# Altium footprint library HVPSlibrary.PcbLib: 149 footprints (part 10 of 11)
Each footprint in its own frame and in the unit in brackets; x right, y up, seen from the top. Pads: shape width x height; smd on the part's side, far side on the other; paste and mask are expansions set on the pad; w line width, h text height; cw(c..) or ccw(c..) is an arc to the next point about the centre after c.
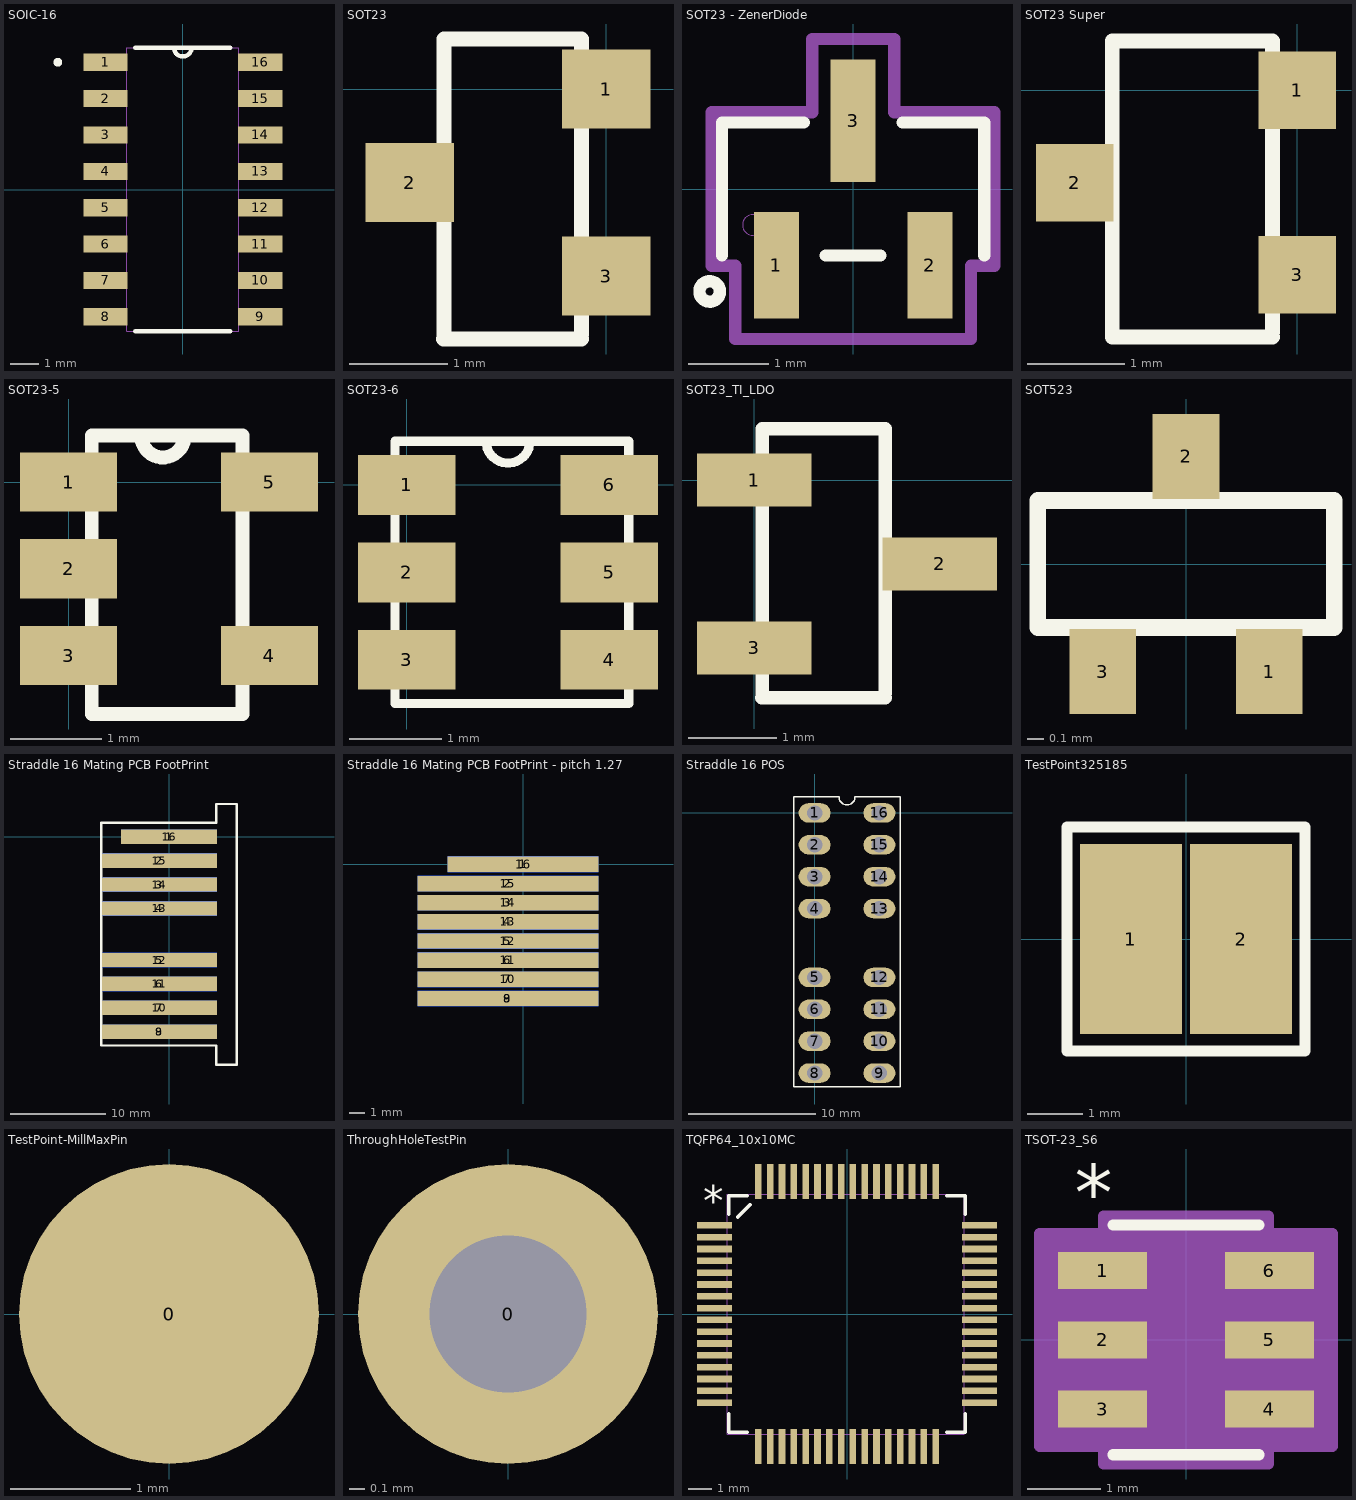
[diagram p9: the footprints below, top view; thin cyan lines are the x and y axes]

## SOIC-16 [mm]
pads (16):
  rect 1.55x0.6 smd: 1(-2.7,4.445) 2(-2.7,3.175) 3(-2.7,1.905) 4(-2.7,0.635) 5(-2.7,-0.635) 6(-2.7,-1.905) 7(-2.7,-3.175) 8(-2.7,-4.445) 9(2.7,-4.445) 10(2.7,-3.175) 11(2.7,-1.905) 12(2.7,-0.635) 13(2.7,0.635) 14(2.7,1.905) 15(2.7,3.175) 16(2.7,4.445)
Top Overlay:
  circle w0.152: c-4.364,4.445 r0.076
  lines w0.152: -1.662,-4.953 1.662,-4.953 ; -1.662,4.953 1.662,4.953 ; -0.305,4.953 ccw(c0,4.953) 0.305,4.953
Mechanical 1:
  circle w0: c-4.364,4.445 r0.076
  lines w0: -0.305,4.953 ccw(c0,4.953) 0.305,4.953 ; -1.956,-4.953 -1.956,4.953 1.956,4.953 1.956,-4.953 -1.956,-4.953

## SOT23 [mm] "3 PIN"
pads (3):
  rect 0.9x0.8 smd: 1(0,0) 2(-2,-0.95) 3(0,-1.9)
Top Overlay:
  lines w0.152: -1.654,-2.54 -0.254,-2.54 ; -1.651,-2.54 -1.651,0.508 -0.254,0.508 -0.254,-2.492
3D body: height 1, standoff 0, extent -1.651,-2.54 -0.254,0.508

## SOT23 - ZenerDiode [mil]
pads (3):
  rect 22x52 smd: 1(-37.5,-37.21) 2(37.5,-37.21)
  rect 22x59.71 smd: 3(0,33.36)
Top Overlay:
  circle w6: c-70,-50 r5
  lines w6: -64,-32.5 -64,32.5 -24.1,32.5 ; -13.4,-32.5 13.4,-32.5 ; 24.1,32.5 64,32.5 64,-32.5
Mechanical 13:
  circle w0: c-49,-17.5 r5
Mechanical 15:
  lines w6: -69,-37.5 -69,37.5 -20,37.5 -20,73.21 20,73.21 20,37.5 69,37.5 69,-37.5 57.5,-37.5 57.5,-73.21 -57.5,-73.21 -57.5,-37.5 -69,-37.5
3D body: height 39.37, standoff 0, extent -65,-35 65,35

## SOT23 Super [mm] "3 PIN"
pads (3):
  rect 0.8x0.8 smd: 1(0,0) 2(-2.29,-0.95) 3(0,-1.9)
Top Overlay:
  lines w0.152: -0.254,-2.54 -1.905,-2.54 -1.905,0.508 -0.254,0.508 -0.254,-2.492
3D body: height 1, standoff 0, extent -1.841,-2.54 -0.444,0.508

## SOT23-5 [mm]
pads (5):
  rect 1.06x0.65 smd: 1(0,0) 2(0,-0.95) 3(0,-1.9) 4(2.2,-1.9) 5(2.2,0)
Top Overlay:
  lines w0.152: 0.795,0.508 ccw(c1.032,0.508) 1.27,0.508 ; 0.254,-2.54 1.905,-2.54 1.905,0.508 0.254,0.508 0.254,-2.54
3D body: height 1.45, standoff 0, extent 0.254,-2.54 1.905,0.508

## SOT23-6 [mm]
pads (6):
  rect 1.06x0.65 smd: 1(0,0) 2(0,-0.95) 3(0,-1.9) 4(2.2,-1.9) 5(2.2,-0.95) 6(2.2,0)
Top Overlay:
  lines w0.1: -0.127,-2.375 -0.127,0.475 1.338,0.475 cw(c1.1,0.475) 0.863,0.475 2.413,0.475 2.413,-2.375 -0.127,-2.375

## SOT23_TI_LDO [mm] "3 PIN"
pads (3):
  rect 1.3x0.6 smd: 1(0,0) 2(2.1,-0.95) 3(0,-1.9)
Top Overlay:
  lines w0.152: 0.086,-2.464 1.486,-2.464 ; 0.089,-2.464 0.089,0.584 1.486,0.584 1.486,-2.416
3D body: height 1, standoff 0, extent 0.089,-2.464 1.486,0.584

## SOT523 [mm]
pads (3):
  rect 0.4x0.51 smd: 1(0.5,-0.645) 2(0,0.645) 3(-0.5,-0.645)
Top Overlay:
  lines w0.1: -0.889,-0.381 -0.889,0.381 0.889,0.381 0.889,-0.381 -0.889,-0.381

## Straddle 16 Mating PCB FootPrint [mm]
pads (16):
  rect 10x1.5 smd: 1(0,0)
  rect 12x1.5 smd: 2(-1,-2.5) 3(-1,-5) 4(-1,-7.5) 5(-1,-12.9) 6(-1,-15.4) 7(-1,-17.9) 8(-1,-20.4)
  rect 12x1.5 smd far side: 9(-1,-20.4) 10(-1,-17.9) 11(-1,-15.4) 12(-1,-12.9) 13(-1,-7.5) 14(-1,-5) 15(-1,-2.5)
  rect 10x1.5 smd far side: 16(0,0)
Top Overlay:
  lines w0.254: -7.112,-21.85 4.953,-21.85 4.953,-23.876 7.112,-23.876 7.112,3.429 4.953,3.429 4.953,1.45 -7.112,1.45 -7.112,-21.85

## Straddle 16 Mating PCB FootPrint - pitch 1.27 [mm]
pads (16):
  rect 10x1.02 smd: 1(0,0)
  rect 12x1.02 smd: 2(-1,-1.27) 3(-1,-2.54) 4(-1,-3.81) 5(-1,-5.08) 6(-1,-6.35) 7(-1,-7.62) 8(-1,-8.89)
  rect 12x1.02 smd far side: 9(-1,-8.89) 10(-1,-7.62) 11(-1,-6.35) 12(-1,-5.08) 13(-1,-3.81) 14(-1,-2.54) 15(-1,-1.27)
  rect 10x1.05 smd far side: 16(0,0)

## Straddle 16 POS [mm]
pads (16):
  oval 2.5x1.524 hole 1.2: 1(0,0) 2(0,-2.5) 3(0,-5) 4(0,-7.5) 5(0,-12.9) 6(0,-15.4) 7(0,-17.9) 8(0,-20.4) 9(5.08,-20.4) 10(5.08,-17.9) 11(5.08,-15.4) 12(5.08,-12.9) 13(5.08,-7.5) 14(5.08,-5) 15(5.08,-2.5) 16(5.08,0)
Top Overlay:
  lines w0.1: -1.651,-21.463 -1.651,1.25 1.915,1.25 ccw(c2.54,1.25) 3.165,1.25 6.731,1.25 6.731,-21.463 -1.651,-21.463
3D body "458440004.stp": height 15, standoff -3.19, extent -1.96,-23.306 7.04,4.294

## TestPoint325185 [mm]
pads (2):
  rect 1.85x3.45 smd: 1(-1,0) 2(1,0)
Top Overlay:
  lines w0.2: -2.159,-2.032 2.159,-2.032 2.159,2.032 -2.159,2.032 -2.159,0.466 -2.159,-2.032

## TestPoint-MillMaxPin [mm] "MillMaxPin 1508 round male pin"
pads (1):
  round 2.5 smd: 0(0,0)
3D body "mill-max-1508-0-00-15-00-00-03-0.step": height 4.32, standoff 0, extent -1.27,-1.27 1.27,1.27

## ThroughHoleTestPin [mm] "ThroughHoleTestPin - Keystone Electronics 5001"
pads (1):
  round 2 hole 1.05: 0(0,0)
3D body "keystone-PN5000.STEP": height 4.57, standoff -3.05, extent -1.27,-1.27 1.27,1.27

## TQFP64_10x10MC [mil]
pads (64):
  rect 58x11 smd: 1(-221,147.64) 2(-221,127.95) 3(-221,108.27) 4(-221,88.58) 5(-221,68.9) 6(-221,49.21) 7(-221,29.53) 8(-221,9.84) 9(-221,-9.84) 10(-221,-29.53) 11(-221,-49.21) 12(-221,-68.9) 13(-221,-88.58) 14(-221,-108.27) 15(-221,-127.95) 16(-221,-147.64) 33(221,-147.64) 34(221,-127.95) 35(221,-108.27) 36(221,-88.58) 37(221,-68.9) 38(221,-49.21) 39(221,-29.53) 40(221,-9.84) 41(221,9.84) 42(221,29.53) 43(221,49.21) 44(221,68.9) 45(221,88.58) 46(221,108.27) 47(221,127.95) 48(221,147.64)
  rect 11x58 smd: 17(-147.64,-221) 18(-127.95,-221) 19(-108.27,-221) 20(-88.58,-221) 21(-68.9,-221) 22(-49.21,-221) 23(-29.53,-221) 24(-9.84,-221) 25(9.84,-221) 26(29.53,-221) 27(49.21,-221) 28(68.9,-221) 29(88.58,-221) 30(108.27,-221) 31(127.95,-221) 32(147.64,-221) 49(147.64,221) 50(127.95,221) 51(108.27,221) 52(88.58,221) 53(68.9,221) 54(49.21,221) 55(29.53,221) 56(9.84,221) 57(-9.84,221) 58(-29.53,221) 59(-49.21,221) 60(-68.9,221) 61(-88.58,221) 62(-108.27,221) 63(-127.95,221) 64(-147.64,221)
Top Overlay:
  lines w6: -197,-166.14 -197,-197 -166.14,-197 ; -197,166.14 -197,197 -166.14,197 ; -182.26,161.74 -161.74,182.26 ; 166.14,-197 197,-197 197,-166.14 ; 166.14,197 197,197 197,166.14
  text "*" at -240,165 h50
Mechanical 1:
  lines w2: -200,-200 -200,200 195,200 195,-200 -200,-200
3D body: height 47.24, standoff 0, extent -200,-200 195,200

## TSOT-23_S6 [mil]
pads (6):
  rect 48x20 smd: 1(-45,37.4) 2(-45,0) 3(-45,-37.4) 4(45,-37.4) 5(45,0) 6(45,37.4)
Top Overlay:
  lines w6: -39.5,-62 39.5,-62 ; -39.5,62 39.5,62
  text "*" at -60,65 h30
Mechanical 13:
  text "*" at -63,65.33 h30
Mechanical 15:
  region: -44.5,-57.4 -79,-57.4 -79,57.4 -44.5,57.4 -44.5,67 44.5,67 44.5,57.4 79,57.4 79,-57.4 44.5,-57.4 44.5,-67 -44.5,-67
  lines w6: -79,-57.4 -44.5,-57.4 -44.5,-67 44.5,-67 44.5,-57.4 79,-57.4 79,57.4 44.5,57.4 44.5,67 -44.5,67 -44.5,57.4 -79,57.4 -79,-57.4